# Altium footprint library Kyocera.PcbLib: 2 footprints
Each footprint in its own frame and in the unit in brackets; x right, y up, seen from the top. Pads: shape width x height; smd on the part's side, far side on the other; paste and mask are expansions set on the pad; w line width, h text height; cw(c..) or ccw(c..) is an arc to the next point about the centre after c.
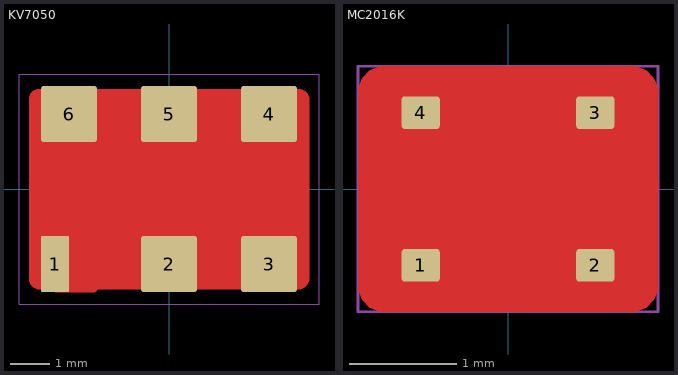
[diagram p0: the footprints below, top view; thin cyan lines are the x and y axes]

## KV7050 [mil] "7.0 mm x 5.0 mm Oscillator"
pads (6):
  rrect10% 28x56 smd paste-2 mask+2: 1(-114,-75)
  rrect10% 56x56 smd paste-2 mask+2: 2(0,-75) 3(100,-75) 4(100,75) 5(0,75) 6(-100,75)
Top Layer:
  region: -114,-47 -100,-47 -72,-75 -72,-100 -72,-100.6 -72.46,-101.7 -73.3,-102.54 -74.4,-103 -75,-103 -114,-103
  pour cut-out: -130,100 -131.99,100 -135.66,98.48 -138.48,95.66 -140,91.99 -140,90 -140,-90 -140,-91.99 -138.48,-95.66 -135.66,-98.48 -131.99,-100 -130,-100 130,-100 131.99,-100 135.66,-98.48 138.48,-95.66 140,-91.99 140,-90 140,90 140,91.99 138.48,95.66 135.66,98.48 131.99,100 130,100
Top Designator:
  text ".Designator" at -127.64,-12.5 h35
Top Courtyard:
  lines w1: -150,-115 150,-115 150,115 -150,115 -150,-115
Top Component Outline:
  lines w1: -113.78,-98.43 cw(c-105.91,-98.43) -105.91,-90.55 -94.09,-90.55 cw(c-94.09,-98.43) -86.22,-98.43 ; -113.78,98.43 ccw(c-105.91,98.43) -105.91,90.55 -94.09,90.55 ccw(c-94.09,98.43) -86.22,98.43 ; -13.78,-98.43 cw(c-5.91,-98.43) -5.91,-90.55 5.91,-90.55 cw(c5.91,-98.43) 13.78,-98.43 ; -13.78,98.43 ccw(c-5.91,98.43) -5.91,90.55 5.91,90.55 ccw(c5.91,98.43) 13.78,98.43 ; 86.22,-98.43 cw(c94.09,-98.43) 94.09,-90.55 105.91,-90.55 cw(c105.91,-98.43) 113.78,-98.43 ; 86.22,98.43 ccw(c94.09,98.43) 94.09,90.55 105.91,90.55 ccw(c105.91,98.43) 113.78,98.43 ; -104.37,87.6 ccw(c-104.37,65) -126.97,65 -126.97,-65 ccw(c-104.37,-65) -104.37,-87.6 104.37,-87.6 ccw(c104.37,-65) 126.97,-65 126.97,65 ccw(c104.37,65) 104.37,87.6 -104.37,87.6 ; -104.37,87.6 -104.37,87.6 ; -137.8,-90.55 cw(c-137.8,-98.43) -129.92,-98.43 129.92,-98.43 cw(c137.8,-98.43) 137.8,-90.55 137.8,90.55 cw(c137.8,98.43) 129.92,98.43 -129.92,98.43 cw(c-137.8,98.43) -137.8,90.55 -137.8,-90.55 ; -129.92,-65.45 ccw(c-104.37,-65.45) -104.37,-91 104.37,-91 ccw(c104.37,-65.45) 129.92,-65.45 129.92,65.45 ccw(c104.37,65.45) 104.37,91 -104.37,91 ccw(c-104.37,65.45) -129.92,65.45 -129.92,-65.45 ; -127.56,-96 -72.44,-96 -72.44,-48.5 -127.56,-48.5 -127.56,-96 ; -127.56,48.5 -127.56,96 -72.44,96 -72.44,48.5 -127.56,48.5 ; -27.56,-96 27.56,-96 27.56,-48.5 -27.56,-48.5 -27.56,-96 ; -27.56,48.5 27.56,48.5 27.56,96 -27.56,96 -27.56,48.5 ; 72.44,-96 72.44,-48.5 127.56,-48.5 127.56,-96 72.44,-96 ; 72.44,48.5 127.56,48.5 127.56,96 72.44,96 72.44,48.5
3D body: height 73, standoff 35.43, extent -129.92,-91 129.92,91
3D body: height 40, standoff 0, extent -27.56,48.5 27.56,96
3D body: height 40, standoff 0, extent -27.56,-96 27.56,-48.5
3D body: height 40, standoff 0, extent -127.56,-96 -72.44,-48.5
3D body: height 70, standoff 0.1, extent -137.81,-98.44 137.78,98.43
3D body: height 79, standoff 39.37, extent -126.97,-87.6 126.97,87.6
3D body: height 79.8, standoff 79.2, extent -101.91,-61.97 -81.99,-42.01
3D body: height 40, standoff 0, extent 72.44,-96 127.56,-48.5
3D body: height 40, standoff 0, extent -127.56,48.5 -72.44,96
3D body: height 40, standoff 0, extent 72.44,48.5 127.56,96

## MC2016K [mil] "2.0 mm x 1.6 mm Oscillator"
pads (4):
  rrect20% 14x12 smd paste+0 mask+1.5: 1(-32,-28) 2(32,-28) 3(32,28) 4(-32,28)
Top Layer:
  region: -27.56,7.87 -41.34,7.87 -41.73,7.87 -42.45,8.17 -43.01,8.73 -43.31,9.45 -43.31,9.84 -43.31,31.5 -43.31,32.28 -42.71,33.73 -41.6,34.83 -40.15,35.43 -39.37,35.43 -25.59,35.43 -25.2,35.43 -24.48,35.13 -23.92,34.58 -23.62,33.86 -23.62,33.46 -23.62,19.68 -24.39,19.61 -25.81,19.02 -26.9,17.94 -27.48,16.52 -27.56,15.75
  region: -27.56,-7.87 -41.34,-7.87 -41.73,-7.87 -42.45,-8.17 -43.01,-8.73 -43.31,-9.45 -43.31,-9.84 -43.31,-31.5 -43.31,-32.28 -42.71,-33.73 -41.6,-34.83 -40.15,-35.43 -39.37,-35.43 -25.59,-35.43 -25.2,-35.43 -24.48,-35.13 -23.92,-34.58 -23.62,-33.86 -23.62,-33.46 -23.62,-19.68 -24.39,-19.61 -25.81,-19.02 -26.9,-17.94 -27.48,-16.52 -27.56,-15.75
  region: 27.56,7.87 41.34,7.87 41.73,7.87 42.45,8.17 43.01,8.73 43.31,9.45 43.31,9.84 43.31,31.5 43.31,32.28 42.71,33.73 41.6,34.83 40.15,35.43 39.37,35.43 25.59,35.43 25.2,35.43 24.48,35.13 23.92,34.58 23.62,33.86 23.62,33.46 23.62,19.68 24.39,19.61 25.81,19.02 26.9,17.94 27.48,16.52 27.56,15.75
  region: 27.56,-7.87 41.34,-7.87 41.73,-7.87 42.45,-8.17 43.01,-8.73 43.31,-9.45 43.31,-9.84 43.31,-31.5 43.31,-32.28 42.71,-33.73 41.6,-34.83 40.15,-35.43 39.37,-35.43 25.59,-35.43 25.2,-35.43 24.48,-35.13 23.92,-34.58 23.62,-33.86 23.62,-33.46 23.62,-19.68 24.39,-19.61 25.81,-19.02 26.9,-17.94 27.48,-16.52 27.56,-15.75
  pour cut-out: -45,-45 -46.99,-45 -50.66,-43.48 -53.48,-40.66 -55,-36.99 -55,-35 -55,35 -55,36.99 -53.48,40.66 -50.66,43.48 -46.99,45 -45,45 45,45 46.99,45 50.66,43.48 53.48,40.66 55,36.99 55,35 55,-35 55,-36.99 53.48,-40.66 50.66,-43.48 46.99,-45 45,-45
Top Solder:
  region: -15,-30 0,-40 0,-20
Top Designator:
  text ".Designator" at -127.64,-12.5 h35
Top Courtyard:
  lines w1: -55,-45 55,-45 55,45 -55,45 -55,-45
Top Component Outline:
  lines w1: -39.37,-7.87 -27.56,-7.87 -27.56,-15.75 ccw(c-23.62,-15.75) -23.62,-19.68 -23.62,-31.5 ; -39.37,7.87 -27.56,7.87 -27.56,15.75 cw(c-23.62,15.75) -23.62,19.68 -23.62,31.5 ; 23.62,-31.5 23.62,-19.68 ccw(c23.62,-15.75) 27.56,-15.75 27.56,-7.87 39.37,-7.87 ; 23.62,31.5 23.62,19.68 cw(c23.62,15.75) 27.56,15.75 27.56,7.87 39.37,7.87 ; -39.37,-31.5 39.37,-31.5 39.37,31.5 -39.37,31.5 -39.37,-31.5
3D body "Kyocera CX2016DB.STEP": height 15.75, standoff 0, extent -40.35,-32.47 40.36,32.49